# Altium footprint library 2015PCB新.PcbLib: 21 footprints (part 2 of 2)
Each footprint in its own frame and in the unit in brackets; x right, y up, seen from the top. Pads: shape width x height; smd on the part's side, far side on the other; paste and mask are expansions set on the pad; w line width, h text height; cw(c..) or ccw(c..) is an arc to the next point about the centre after c.
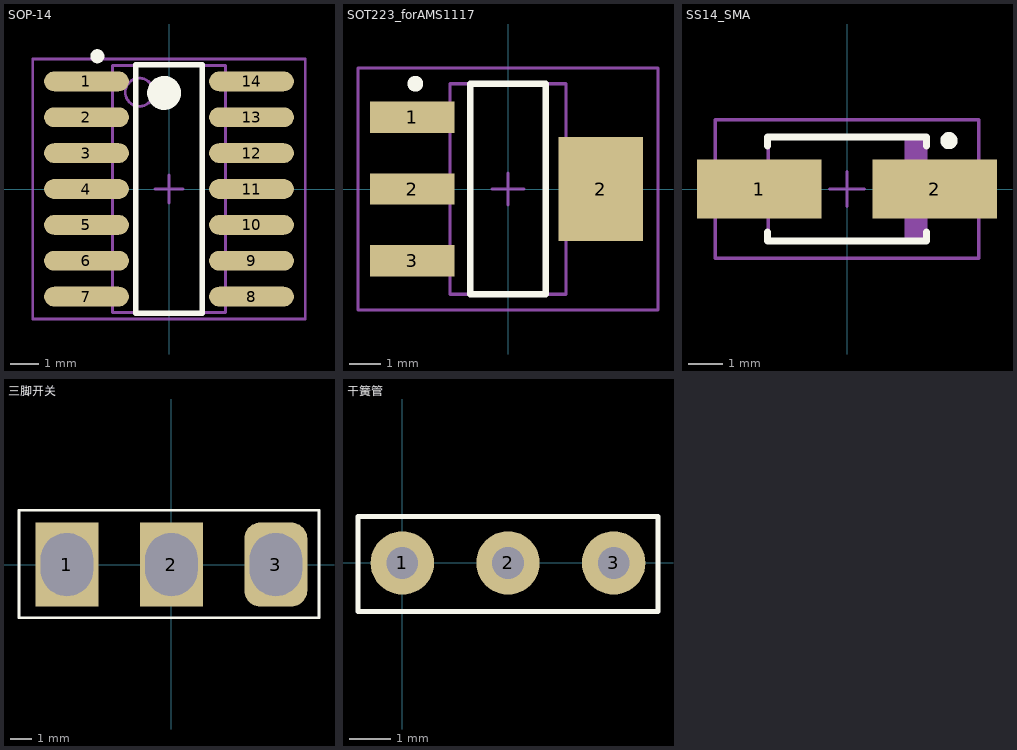
[diagram p1: the footprints below, top view; thin cyan lines are the x and y axes]

## SOP-14 [mm] "SOIC, 14-Leads, Body 8.8x4.0mm (max), Pitch 1.27mm, IPC Medium Density"
height 1.75
pads (14):
  oval 3x0.7 smd: 1(-2.921,3.81) 2(-2.921,2.54) 3(-2.921,1.27) 4(-2.921,0) 5(-2.921,-1.27) 6(-2.921,-2.54) 7(-2.921,-3.81) 8(2.921,-3.81) 9(2.921,-2.54) 10(2.921,-1.27) 11(2.921,0) 12(2.921,1.27) 13(2.921,2.54) 14(2.921,3.81)
Top Overlay:
  circle w0.25: c-2.538,4.699 r0.125
  circle w0.6: c-0.175,3.4 r0.3
  lines w0.2: -1.175,-4.4 -1.175,4.4 1.175,4.4 1.175,-4.4 -1.175,-4.4
Mechanical 13:
  circle w0.1: c-1.05,3.425 r0.5
  lines w0.1: -2,-4.375 -2,4.375 2,4.375 2,-4.375 -2,-4.375
Mechanical 15:
  lines w0.1: -0.5,0 0.5,0 ; 0,-0.5 0,0.5 ; -4.826,-4.6 -4.826,4.6 4.826,4.6 4.826,-4.6 -4.826,-4.6
3D body: height 1.75, standoff 0.25, extent -2,-4.375 2,4.375

## SOT223_forAMS1117 [mm] "SOT223, 4-Leads, Body 6.7x7.3mm (max), Pitch 2.30mm, IPC Low Density"
height 1.8
pads (4):
  rect 2.7x1 smd: 1(-3.048,2.286) 2(-3.048,0) 3(-3.048,-2.286)
  rect 2.7x3.3 smd: 2(2.95,0)
Top Overlay:
  circle w0.25: c-2.95,3.35 r0.125
  lines w0.2: -1.2,-3.35 -1.2,3.35 1.2,3.35 1.2,-3.35 -1.2,-3.35
Mechanical 13:
  lines w0.1: -1.85,-3.35 -1.85,3.35 1.85,3.35 1.85,-3.35 -1.85,-3.35
Mechanical 15:
  lines w0.1: -0.5,0 0.5,0 ; 0,-0.5 0,0.5 ; -4.775,-3.85 -4.775,3.85 4.775,3.85 4.775,-3.85 -4.775,-3.85
3D body: height 1.8, standoff 0.02, extent -1.85,-3.35 1.85,3.35

## SS14_SMA [mm] "Molded Diode, 2-Leads, Body 4.3x2.6mm, IPC Low Density"
height 2.62
pads (2):
  rect 3.6x1.7 smd: 1(-2.54,0) 2(2.54,0)
Top Overlay:
  circle w0.25: c2.95,1.4 r0.125
  lines w0.2: -2.3,-1.25 -2.3,-1.5 2.3,-1.5 2.3,-1.25 ; -2.3,1.25 -2.3,1.5 2.3,1.5 2.3,1.25
Mechanical 13:
  rectangle: 1.67,-1.5 2.285,1.5
  lines w0.1: -2.285,-1.5 -2.285,1.5 2.285,1.5 2.285,-1.5 -2.285,-1.5
Mechanical 15:
  lines w0.1: -0.5,0 0.5,0 ; 0,-0.5 0,0.5 ; -3.81,-2 -3.81,2 3.81,2 3.81,-2 -3.81,-2
3D body: height 2.62, standoff 0, extent -2.285,-1.5 2.285,1.5

## 三脚开关 [mm]
pads (3):
  rect 3x4 hole 2.5 slot 3 at 90 deg: 1(-4.978,0) 2(0,0)
  rrect50% 3x4 hole 2.5 slot 3 at 90 deg: 3(4.978,0)
Top Overlay:
  lines w0.127: -7.264,-2.54 7.036,-2.54 7.036,2.591 -7.264,2.591 -7.264,-2.54

## 干簧管 [mil]
pads (3):
  round 60 hole 30: 1(0,0) 2(100,0) 3(200,0)
Top Overlay:
  lines w5: -42,-46 -42,44 242,44 242,-46 -42,-46